# Altium integrated library Caps.IntLib: 151 symbols (part 2 of 3)
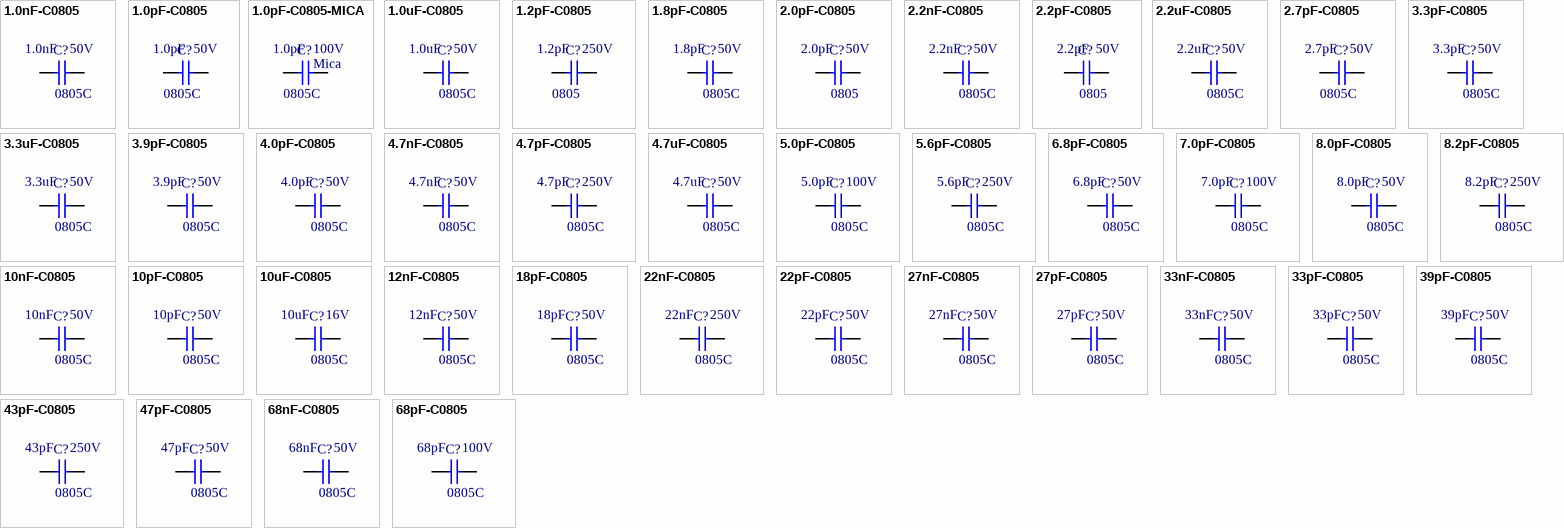
[diagram p8: symbols 1.0nF-C0805 to 68pF-C0805]

## 1.0pF-C0805-MICA
designator C?, comment value 1.0pF  PackageReference: 0805C  Voltage: 100V  Special: Mica  (hidden comment: MC08CA010D-F, 1.0pF, 0805, 100V)
1.0pF, SMD Chip Capacitor, Mica, 0805 size, Non Polarized, 100V; Published: 8-Jun-2000; LatestRevisionDate: 29-May-2009; LatestRevisionNote: IPC-7351 Footprint Added.; Publisher: Altium Limited; PackageDescription: Chip Capacitor; Supplier 1: Arrow; Supplier 2: Digi-Key; Supplier 3: Newark; Supplier 4: Mouser; Supplier Part Number 1: MC08CA010D-F; Supplier Part Number 2: 338-1339-ND; Supplier Part Number 3: 66K2678; Supplier Part Number 4: 5982-08-100V1.0-F; Part Number: MC08CA010D-F
footprint 0805-C (Chip Capacitor, Body 2.0x1.3mm, IPC High Density)
simulation model CAP (Capacitor)
signal-integrity model Cap Semi (Capacitor Signal Integrity Analisys)
3D model 0805Cap (PCB3D Model)
pins: 1, 2

## 1.0uF-C0805
designator C?, comment value 1.0uF  PackageReference: 0805C  Voltage: 50V  (hidden comment: 1.0uF, 0805, 50V)
1.0uF, SMD Chip Capacitor, 0805 size, Non Polarized, 50V; Published: 8-Jun-2000; LatestRevisionDate: 29-May-2009; LatestRevisionNote: IPC-7351 Footprint Added.; Publisher: Altium Limited; PackageDescription: Chip Capacitor; Supplier 1: Newark; Supplier 2: Digi-Key; Supplier 3: Mouser; Supplier Part Number 1: 07W3955; Supplier Part Number 2: 399-7409-6-ND; Supplier Part Number 3: 80-C0805C105K5R
footprint 0805-C (Chip Capacitor, Body 2.0x1.3mm, IPC High Density)
simulation model CAP (Semiconductor Capacitor)
signal-integrity model Cap Semi (Capacitor Signal Integrity Analisys)
3D model 0805Cap (PCB3D Model)
pins: 1, 2

## 1.2pF-C0805
designator C?, comment value 1.2pF  PackageReference: 0805  Voltage: 250V  (hidden comment: 1.2pF, 0805, 250V)
1.2pF, SMD Chip Capacitor, 0805 size, Non Polarized, 250V; Published: 8-Jun-2000; LatestRevisionDate: 29-May-2009; LatestRevisionNote: IPC-7351 Footprint Added.; Publisher: Altium Limited; PackageDescription: Chip Capacitor; Supplier 1: Mouser; Supplier 2: Digi-Key; Supplier Part Number 1: 581-08051A1R2CAT2A; Supplier Part Number 2: 478-5149-1-ND
footprint 0805-C (Chip Capacitor, Body 2.0x1.3mm, IPC High Density)
simulation model CAP (Capacitor)
signal-integrity model Cap Semi (Capacitor Signal Integrity Analisys)
3D model 0805Cap (PCB3D Model)
pins: 1, 2

## 1.8pF-C0805
designator C?, comment value 1.8pF  PackageReference: 0805C  Voltage: 50V  (hidden comment: 1.8pF, 0805, 50V)
1.8pF, SMD Chip Capacitor, 0805 size, Non Polarized, 50V; Published: 8-Jun-2000; LatestRevisionDate: 29-May-2009; LatestRevisionNote: IPC-7351 Footprint Added.; Publisher: Altium Limited; PackageDescription: Chip Capacitor; Supplier 1: Digi-Key; Supplier 2: Mouser; Supplier 3: Newark; Supplier Part Number 1: 478-1295-1-ND; Supplier Part Number 2: 581-08055A1R8C; Supplier Part Number 3: 94W2922
footprint 0805-C (Chip Capacitor, Body 2.0x1.3mm, IPC High Density)
simulation model CAP (Capacitor)
signal-integrity model Cap Semi (Capacitor Signal Integrity Analisys)
3D model 0805Cap (PCB3D Model)
pins: 1, 2

## 2.0pF-C0805
designator C?, comment value 2.0pF  PackageReference: 0805  Voltage: 50V  (hidden comment: 2.0pF, 0805, 50V)
2.0pF, SMD Chip Capacitor, 0805 size, Non Polarized, 50V; Published: 8-Jun-2000; LatestRevisionDate: 29-May-2009; LatestRevisionNote: IPC-7351 Footprint Added.; Publisher: Altium Limited; PackageDescription: Chip Capacitor; Supplier 1: Newark; Supplier 2: Mouser; Supplier 3: Digi-Key; Supplier Part Number 1: 64K2912; Supplier Part Number 2: 80-C0805C209C5G; Supplier Part Number 3: 399-1106-1-ND
footprint 0805-C (Chip Capacitor, Body 2.0x1.3mm, IPC High Density)
simulation model CAP (Capacitor)
signal-integrity model Cap Semi (Capacitor Signal Integrity Analisys)
3D model 0805Cap (PCB3D Model)
pins: 1, 2

## 2.2nF-C0805
designator C?, comment value 2.2nF  PackageReference: 0805C  Voltage: 50V  (hidden comment: 2.2nF, 0805, 50V)
2.2nF, SMD Chip Capacitor, 0805 size, Non Polarized, 50V; Published: 8-Jun-2000; LatestRevisionDate: 29-May-2009; LatestRevisionNote: IPC-7351 Footprint Added.; Publisher: Altium Limited; PackageDescription: Chip Capacitor; Supplier 1: Digi-Key; Supplier 2: Mouser; Supplier 3: Newark; Supplier Part Number 1: 399-1151-6-ND; Supplier Part Number 2: 80-C0805C222K5R; Supplier Part Number 3: 19C6019
footprint 0805-C (Chip Capacitor, Body 2.0x1.3mm, IPC High Density)
simulation model CAP (Capacitor)
signal-integrity model Cap Semi (Capacitor Signal Integrity Analisys)
3D model 0805Cap (PCB3D Model)
pins: 1, 2

## 2.2pF-C0805
designator C?, comment value 2.2pF  PackageReference: 0805  Voltage: 50V  (hidden comment: 2.2pF, 0805, 50V)
2.2pF, SMD Chip Capacitor, 0805 size, Non Polarized, 50V; Published: 8-Jun-2000; LatestRevisionDate: 29-May-2009; LatestRevisionNote: IPC-7351 Footprint Added.; Publisher: Altium Limited; PackageDescription: Chip Capacitor; Supplier 1: Arrow; Supplier 2: Mouser; Supplier 3: Newark; Supplier 4: Digi-Key; Supplier Part Number 1: 08055A2R2CAT2A; Supplier Part Number 2: 581-08055A2R2C; Supplier Part Number 3: 34M9403; Supplier Part Number 4: 478-1296-1-ND
footprint 0805-C (Chip Capacitor, Body 2.0x1.3mm, IPC High Density)
simulation model CAP (Capacitor)
signal-integrity model Cap Semi (Capacitor Signal Integrity Analisys)
3D model 0805Cap (PCB3D Model)
pins: 1, 2

## 2.2uF-C0805
designator C?, comment value 2.2uF  PackageReference: 0805C  Voltage: 50V  (hidden comment: 2.2uF, 0805, 50V)
2.2uF, SMD Chip Capacitor, 0805 size, Non Polarized, 50V; Published: 8-Jun-2000; LatestRevisionDate: 29-May-2009; LatestRevisionNote: IPC-7351 Footprint Added.; Publisher: Altium Limited; PackageDescription: Chip Capacitor; Supplier 1: Digi-Key; Supplier 2: Newark; Supplier 3: Mouser; Supplier Part Number 1: 587-1292-1-ND; Supplier Part Number 2: 30K5543; Supplier Part Number 3: 963-TMK212BJ225KG-T
footprint 0805-C (Chip Capacitor, Body 2.0x1.3mm, IPC High Density)
simulation model CAP (Capacitor)
signal-integrity model Cap Semi (Capacitor Signal Integrity Analisys)
3D model 0805Cap (PCB3D Model)
pins: 1, 2

## 2.7pF-C0805
designator C?, comment value 2.7pF  PackageReference: 0805C  Voltage: 50V  (hidden comment: 2.7pF, 0805, 50V)
2.7pF, SMD Chip Capacitor, 0805 size, Non Polarized, 50V; Published: 8-Jun-2000; LatestRevisionDate: 29-May-2009; LatestRevisionNote: IPC-7351 Footprint Added.; Publisher: Altium Limited; PackageDescription: Chip Capacitor; Supplier 1: Newark; Supplier 2: Digi-Key; Supplier 3: Mouser; Supplier Part Number 1: 94W2928; Supplier Part Number 2: 478-1297-1-ND; Supplier Part Number 3: 581-08055A2R7C
footprint 0805-C (Chip Capacitor, Body 2.0x1.3mm, IPC High Density)
simulation model CAP (Capacitor)
signal-integrity model Cap Semi (Capacitor Signal Integrity Analisys)
3D model 0805Cap (PCB3D Model)
pins: 1, 2

## 3.3pF-C0805
designator C?, comment value 3.3pF  PackageReference: 0805C  Voltage: 50V  (hidden comment: 3.3pF, 0805, 50V)
3.3pF, SMD Chip Capacitor, 0805 size, Non Polarized, 50V; Published: 8-Jun-2000; LatestRevisionDate: 29-May-2009; LatestRevisionNote: IPC-7351 Footprint Added.; Publisher: Altium Limited; PackageDescription: Chip Capacitor; Supplier 1: Mouser; Supplier 2: Newark; Supplier 3: Digi-Key; Supplier Part Number 1: 581-08055A3R3C; Supplier Part Number 2: 95W9318; Supplier Part Number 3: 478-1298-1-ND
footprint 0805-C (Chip Capacitor, Body 2.0x1.3mm, IPC High Density)
simulation model CAP (Capacitor)
signal-integrity model Cap Semi (Capacitor Signal Integrity Analisys)
3D model 0805Cap (PCB3D Model)
pins: 1, 2

## 3.3uF-C0805
designator C?, comment value 3.3uF  PackageReference: 0805C  Voltage: 50V  (hidden comment: 3.3uF, 0805, 50V)
3.3uF, SMD Chip Capacitor, 0805 size, Non Polarized, 50V; Published: 8-Jun-2000; LatestRevisionDate: 29-May-2009; LatestRevisionNote: IPC-7351 Footprint Added.; Publisher: Altium Limited; PackageDescription: Chip Capacitor; Supplier 1: Mouser; Supplier 2: Newark; Supplier 3: Digi-Key; Supplier Part Number 1: 810-CGA4J3X5R1H335K; Supplier Part Number 2: 52W9758; Supplier Part Number 3: 445-7881-1-ND
footprint 0805-C (Chip Capacitor, Body 2.0x1.3mm, IPC High Density)
simulation model CAP (Capacitor)
signal-integrity model Cap Semi (Capacitor Signal Integrity Analisys)
3D model 0805Cap (PCB3D Model)
pins: 1, 2

## 3.9pF-C0805
designator C?, comment value 3.9pF  PackageReference: 0805C  Voltage: 50V  (hidden comment: 3.9pF, 0805, 50V)
3.9pF, SMD Chip Capacitor, 0805 size, Non Polarized, xxV; Published: 8-Jun-2000; LatestRevisionDate: 29-May-2009; LatestRevisionNote: IPC-7351 Footprint Added.; Publisher: Altium Limited; PackageDescription: Chip Capacitor; Supplier 1: Digi-Key; Supplier 2: Mouser; Supplier 3: Newark; Supplier Part Number 1: 478-1298-1-ND; Supplier Part Number 2: 581-08055A3R3C; Supplier Part Number 3: 95W9318
footprint 0805-C (Chip Capacitor, Body 2.0x1.3mm, IPC High Density)
simulation model CAP (Capacitor)
signal-integrity model Cap Semi (Capacitor Signal Integrity Analisys)
3D model 0805Cap (PCB3D Model)
pins: 1, 2

## 4.0pF-C0805
designator C?, comment value 4.0pF  PackageReference: 0805C  Voltage: 50V  (hidden comment: 4.0pF, 0805, 50V)
4.0pF, SMD Chip Capacitor, 0805 size, Non Polarized, 50V; Published: 8-Jun-2000; LatestRevisionDate: 29-May-2009; LatestRevisionNote: IPC-7351 Footprint Added.; Publisher: Altium Limited; PackageDescription: Chip Capacitor; Supplier 1: Digi-Key; Supplier 2: Newark; Supplier 3: Mouser; Supplier Part Number 1: 311-1093-1-ND; Supplier Part Number 2: 65R8447; Supplier Part Number 3: 603-CC805CRNPO9BN4R0
footprint 0805-C (Chip Capacitor, Body 2.0x1.3mm, IPC High Density)
simulation model CAP (Capacitor)
signal-integrity model Cap Semi (Capacitor Signal Integrity Analisys)
3D model 0805Cap (PCB3D Model)
pins: 1, 2

## 4.7nF-C0805
designator C?, comment value 4.7nF  PackageReference: 0805C  Voltage: 50V  (hidden comment: 4.7nF, 0805, 50V)
4.7nF, SMD Chip Capacitor, 0805 size, Non Polarized, 50V; Published: 8-Jun-2000; LatestRevisionDate: 29-May-2009; LatestRevisionNote: IPC-7351 Footprint Added.; Publisher: Altium Limited; PackageDescription: Chip Capacitor; Supplier 1: Newark; Supplier 2: Digi-Key; Supplier 3: Mouser; Supplier Part Number 1: 64K2938; Supplier Part Number 2: 399-1155-1-ND; Supplier Part Number 3: 80-C0805C472K5R
footprint 0805-C (Chip Capacitor, Body 2.0x1.3mm, IPC High Density)
simulation model CAP (Capacitor)
signal-integrity model Cap Semi (Capacitor Signal Integrity Analisys)
3D model 0805Cap (PCB3D Model)
pins: 1, 2

## 4.7pF-C0805
designator C?, comment value 4.7pF  PackageReference: 0805C  Voltage: 250V  (hidden comment: 4.7pF, 0805, 250V)
4.7pF, SMD Chip Capacitor, 0805 size, Non Polarized, 250V; Published: 8-Jun-2000; LatestRevisionDate: 29-May-2009; LatestRevisionNote: IPC-7351 Footprint Added.; Publisher: Altium Limited; PackageDescription: Chip Capacitor; Supplier 1: Digi-Key; Supplier 2: Digi-Key; Supplier 3: Mouser; Supplier Part Number 1: 712-1371-6-ND; Supplier Part Number 2: 712-1371-1-ND; Supplier Part Number 3: 609-251R15S4R7BV4E
footprint 0805-C (Chip Capacitor, Body 2.0x1.3mm, IPC High Density)
simulation model CAP (Capacitor)
signal-integrity model Cap Semi (Capacitor Signal Integrity Analisys)
3D model 0805Cap (PCB3D Model)
pins: 1, 2

## 4.7uF-C0805
designator C?, comment value 4.7uF  PackageReference: 0805C  Voltage: 50V  (hidden comment: 4.7uF, 0805, 50V)
4.7uF, SMD Chip Capacitor, 0805 size, Non Polarized, 50V; Published: 8-Jun-2000; LatestRevisionDate: 29-May-2009; LatestRevisionNote: IPC-7351 Footprint Added.; Publisher: Altium Limited; PackageDescription: Chip Capacitor; Supplier 1: Mouser; Supplier 2: Newark; Supplier 3: Digi-Key; Supplier Part Number 1: 81-GRM21BR61E475KA12; Supplier Part Number 2: 24R6340; Supplier Part Number 3: 490-3335-1-ND
footprint 0805-C (Chip Capacitor, Body 2.0x1.3mm, IPC High Density)
simulation model CAP (Capacitor)
signal-integrity model Cap Semi (Capacitor Signal Integrity Analisys)
3D model 0805Cap (PCB3D Model)
pins: 1, 2

## 5.0pF-C0805
designator C?, comment value 5.0pF  PackageReference: 0805C  Voltage: 100V  (hidden comment: 5.0pF, 0805, 100V)
5.0pF, SMD Chip Capacitor, 0805 size, Non Polarized, 100V; Published: 8-Jun-2000; LatestRevisionDate: 29-May-2009; LatestRevisionNote: IPC-7351 Footprint Added.; Publisher: Altium Limited; PackageDescription: Chip Capacitor; Supplier 1: Arrow; Supplier 2: Digi-Key; Supplier 3: Mouser; Supplier Part Number 1: GQM2195C2A5R0CB01D; Supplier Part Number 2: 490-3591-1-ND; Supplier Part Number 3: 81-GQM2195C2A5R0CB01
footprint 0805-C (Chip Capacitor, Body 2.0x1.3mm, IPC High Density)
simulation model CAP (Capacitor)
signal-integrity model Cap Semi (Capacitor Signal Integrity Analisys)
3D model 0805Cap (PCB3D Model)
pins: 1, 2

## 5.6pF-C0805
designator C?, comment value 5.6pF  PackageReference: 0805C  Voltage: 250V  (hidden comment: 5.6pF, 0805, 250V)
5.6pF, SMD Chip Capacitor, 0805 size, Non Polarized, 250V; Published: 8-Jun-2000; LatestRevisionDate: 29-May-2009; LatestRevisionNote: IPC-7351 Footprint Added.; Publisher: Altium Limited; PackageDescription: Chip Capacitor; Supplier 1: Newark; Supplier 2: Mouser; Supplier 3: Digi-Key; Supplier Part Number 1: 41T1811; Supplier Part Number 2: 609-251R15S5R6CV4E; Supplier Part Number 3: 712-1372-1-ND
footprint 0805-C (Chip Capacitor, Body 2.0x1.3mm, IPC High Density)
simulation model CAP (Capacitor)
signal-integrity model Cap Semi (Capacitor Signal Integrity Analisys)
3D model 0805Cap (PCB3D Model)
pins: 1, 2

## 6.8pF-C0805
designator C?, comment value 6.8pF  PackageReference: 0805C  Voltage: 50V  (hidden comment: 6.8pF, 0805, 50V)
6.8pF, SMD Chip Capacitor, 0805 size, Non Polarized, 50V; Published: 8-Jun-2000; LatestRevisionDate: 29-May-2009; LatestRevisionNote: IPC-7351 Footprint Added.; Publisher: Altium Limited; PackageDescription: Chip Capacitor; Supplier 1: Mouser; Supplier 2: Digi-Key; Supplier 3: Newark; Supplier Part Number 1: 80-C0805C689D5G; Supplier Part Number 2: 399-9270-1-ND; Supplier Part Number 3: 07X0972
footprint 0805-C (Chip Capacitor, Body 2.0x1.3mm, IPC High Density)
simulation model CAP (Capacitor)
signal-integrity model Cap Semi (Capacitor Signal Integrity Analisys)
3D model 0805Cap (PCB3D Model)
pins: 1, 2

## 7.0pF-C0805
designator C?, comment value 7.0pF  PackageReference: 0805C  Voltage: 100V  (hidden comment: 7.0pF, 0805, 100V)
7.0pF, SMD Chip Capacitor, 0805 size, Non Polarized, 100V; Published: 8-Jun-2000; LatestRevisionDate: 29-May-2009; LatestRevisionNote: IPC-7351 Footprint Added.; Publisher: Altium Limited; PackageDescription: Chip Capacitor; Supplier 1: Digi-Key; Supplier 2: Arrow; Supplier 3: Mouser; Supplier Part Number 1: 490-3597-1-ND; Supplier Part Number 2: GQM2195C2A7R0CB01D; Supplier Part Number 3: 81-GQM2195C2A7R0CB01
footprint 0805-C (Chip Capacitor, Body 2.0x1.3mm, IPC High Density)
simulation model CAP (Capacitor)
signal-integrity model Cap Semi (Capacitor Signal Integrity Analisys)
3D model 0805Cap (PCB3D Model)
pins: 1, 2

## 8.0pF-C0805
designator C?, comment value 8.0pF  PackageReference: 0805C  Voltage: 50V  (hidden comment: 8.0pF, 0805, 50V)
8.0pF, SMD Chip Capacitor, 0805 size, Non Polarized, 50V; Published: 8-Jun-2000; LatestRevisionDate: 29-May-2009; LatestRevisionNote: IPC-7351 Footprint Added.; Publisher: Altium Limited; PackageDescription: Chip Capacitor; Supplier 1: Digi-Key; Supplier 2: Mouser; Supplier 3: Newark; Supplier Part Number 1: 311-1097-1-ND; Supplier Part Number 2: 603-CC805DRNPO9BN8R0; Supplier Part Number 3: 65R8472
footprint 0805-C (Chip Capacitor, Body 2.0x1.3mm, IPC High Density)
simulation model CAP (Capacitor)
signal-integrity model Cap Semi (Capacitor Signal Integrity Analisys)
3D model 0805Cap (PCB3D Model)
pins: 1, 2

## 8.2pF-C0805
designator C?, comment value 8.2pF  PackageReference: 0805C  Voltage: 250V  (hidden comment: 8.2pF, 0805, 250V)
8.2pF, SMD Chip Capacitor, 0805 size, Non Polarized, 250V; Published: 8-Jun-2000; LatestRevisionDate: 29-May-2009; LatestRevisionNote: IPC-7351 Footprint Added.; Publisher: Altium Limited; PackageDescription: Chip Capacitor; Supplier 1: Digi-Key; Supplier 2: Mouser; Supplier 3: Newark; Supplier Part Number 1: 712-1375-1-ND; Supplier Part Number 2: 609-251R15S8R2CV4E; Supplier Part Number 3: 41T1816
footprint 0805-C (Chip Capacitor, Body 2.0x1.3mm, IPC High Density)
simulation model CAP (Capacitor)
signal-integrity model Cap Semi (Capacitor Signal Integrity Analisys)
3D model 0805Cap (PCB3D Model)
pins: 1, 2

## 10nF-C0805
designator C?, comment value 10nF  PackageReference: 0805C  Voltage: 50V  (hidden comment: 10nF, 0805, 50V)
10nF, SMD Chip Capacitor, 0805 size, Non Polarized, 50V; Published: 8-Jun-2000; LatestRevisionDate: 29-May-2009; LatestRevisionNote: IPC-7351 Footprint Added.; Publisher: Altium Limited; PackageDescription: Chip Capacitor; Supplier 1: Mouser; Supplier 2: Digi-Key; Supplier 3: Newark; Supplier Part Number 1: 80-C0805C103K5R; Supplier Part Number 2: 399-1158-6-ND; Supplier Part Number 3: 01J3314
footprint 0805-C (Chip Capacitor, Body 2.0x1.3mm, IPC High Density)
simulation model CAP (Capacitor)
signal-integrity model Cap Semi (Capacitor Signal Integrity Analisys)
3D model 0805Cap (PCB3D Model)
pins: 1, 2

## 10pF-C0805
designator C?, comment value 10pF  PackageReference: 0805C  Voltage: 50V  (hidden comment: 10pF, 0805, 50V)
10pF, SMD Chip Capacitor, 0805 size, Non Polarized, 50V; Published: 8-Jun-2000; LatestRevisionDate: 29-May-2009; LatestRevisionNote: IPC-7351 Footprint Added.; Publisher: Altium Limited; PackageDescription: Chip Capacitor; Supplier 1: Newark; Supplier 2: Digi-Key; Supplier Part Number 1: 64K2874; Supplier Part Number 2: 399-7975-1-ND
footprint 0805-C (Chip Capacitor, Body 2.0x1.3mm, IPC High Density)
simulation model CAP (Capacitor)
signal-integrity model Cap Semi (Capacitor Signal Integrity Analisys)
3D model 0805Cap (PCB3D Model)
pins: 1, 2

## 10uF-C0805
designator C?, comment value 10uF  PackageReference: 0805C  Voltage: 16V  (hidden comment: 10uF, 0805, 16V)
10uF, SMD Chip Capacitor, 0805 size, Non Polarized, 16V; Published: 8-Jun-2000; LatestRevisionDate: 29-May-2009; LatestRevisionNote: IPC-7351 Footprint Added.; Publisher: Altium Limited; PackageDescription: Chip Capacitor; Supplier 1: Arrow; Supplier 2: Digi-Key; Supplier 3: Mouser; Supplier Part Number 1: C0805C106M4PACTU; Supplier Part Number 2: 399-8013-1-ND; Supplier Part Number 3: 80-C0805C106M4P
footprint 0805-C (Chip Capacitor, Body 2.0x1.3mm, IPC High Density)
simulation model CAP (Capacitor)
signal-integrity model Cap Semi (Capacitor Signal Integrity Analisys)
3D model 0805Cap (PCB3D Model)
pins: 1, 2

## 12nF-C0805
designator C?, comment value 12nF  PackageReference: 0805C  Voltage: 50V  (hidden comment: 12nF, 0805, 50V)
12nF, SMD Chip Capacitor, 0805 size, Non Polarized, 50V; Published: 8-Jun-2000; LatestRevisionDate: 29-May-2009; LatestRevisionNote: IPC-7351 Footprint Added.; Publisher: Altium Limited; PackageDescription: Chip Capacitor; Supplier 1: Digi-Key; Supplier 2: Newark; Supplier 3: Mouser; Supplier Part Number 1: 478-1384-1-ND; Supplier Part Number 2: 94W2938; Supplier Part Number 3: 581-08055C123KAT2A
footprint 0805-C (Chip Capacitor, Body 2.0x1.3mm, IPC High Density)
simulation model CAP (Capacitor)
signal-integrity model Cap Semi (Capacitor Signal Integrity Analisys)
3D model 0805Cap (PCB3D Model)
pins: 1, 2

## 18pF-C0805
designator C?, comment value 18pF  PackageReference: 0805C  Voltage: 50V  (hidden comment: 18pF, 0805, 50V)
18pF, SMD Chip Capacitor, 0805 size, Non Polarized, 50V; Published: 8-Jun-2000; LatestRevisionDate: 29-May-2009; LatestRevisionNote: IPC-7351 Footprint Added.; Publisher: Altium Limited; PackageDescription: Chip Capacitor; Supplier 1: Mouser; Supplier 2: Digi-Key; Supplier 3: Newark; Supplier Part Number 1: 80-C0805C180J5G; Supplier Part Number 2: 399-1112-1-ND; Supplier Part Number 3: 64K2909
footprint 0805-C (Chip Capacitor, Body 2.0x1.3mm, IPC High Density)
simulation model CAP (Capacitor)
signal-integrity model Cap Semi (Capacitor Signal Integrity Analisys)
3D model 0805Cap (PCB3D Model)
pins: 1, 2

## 22nF-C0805
designator C?, comment value 22nF  PackageReference: 0805C  Voltage: 250V  (hidden comment: 22nF, 0805, 250V)
22nF, SMD Chip Capacitor, 0805 size, Non Polarized, 250V; Published: 8-Jun-2000; LatestRevisionDate: 29-May-2009; LatestRevisionNote: IPC-7351 Footprint Added.; Publisher: Altium Limited; PackageDescription: Chip Capacitor; Supplier 1: Digi-Key; Supplier 2: Newark; Supplier 3: Mouser; Supplier Part Number 1: 445-2281-6-ND; Supplier Part Number 2: 04X3291; Supplier Part Number 3: 810-C2012X7R2E223K
footprint 0805-C (Chip Capacitor, Body 2.0x1.3mm, IPC High Density)
simulation model CAP (Capacitor)
signal-integrity model Cap Semi (Capacitor Signal Integrity Analisys)
3D model 0805Cap (PCB3D Model)
pins: 1, 2

## 22pF-C0805
designator C?, comment value 22pF  PackageReference: 0805C  Voltage: 50V  (hidden comment: 22pF, 0805, 50V)
22pF, SMD Chip Capacitor, 0805 size, Non Polarized, 50V; Published: 8-Jun-2000; LatestRevisionDate: 29-May-2009; LatestRevisionNote: IPC-7351 Footprint Added.; Publisher: Altium Limited; PackageDescription: Chip Capacitor; Supplier 1: Newark; Supplier 2: Mouser; Supplier 3: Digi-Key; Supplier Part Number 1: 70K9277; Supplier Part Number 2: 80-C0805C220J5G; Supplier Part Number 3: 399-1113-1-ND
footprint 0805-C (Chip Capacitor, Body 2.0x1.3mm, IPC High Density)
simulation model CAP (Capacitor)
signal-integrity model Cap Semi (Capacitor Signal Integrity Analisys)
3D model 0805Cap (PCB3D Model)
pins: 1, 2

## 27nF-C0805
designator C?, comment value 27nF  PackageReference: 0805C  Voltage: 50V  (hidden comment: 27nF, 0805, 50V)
27nF, SMD Chip Capacitor, 0805 size, Non Polarized, 50V; Published: 8-Jun-2000; LatestRevisionDate: 29-May-2009; LatestRevisionNote: IPC-7351 Footprint Added.; Publisher: Altium Limited; PackageDescription: Chip Capacitor; Supplier 1: Digi-Key; Supplier 2: Newark; Supplier 3: Mouser; Supplier Part Number 1: 478-1388-1-ND; Supplier Part Number 2: 94W2944; Supplier Part Number 3: 581-08055C273K
footprint 0805-C (Chip Capacitor, Body 2.0x1.3mm, IPC High Density)
simulation model CAP (Capacitor)
signal-integrity model Cap Semi (Capacitor Signal Integrity Analisys)
3D model 0805Cap (PCB3D Model)
pins: 1, 2

## 27pF-C0805
designator C?, comment value 27pF  PackageReference: 0805C  Voltage: 50V  (hidden comment: 27pF, 0805, 50V)
27pF, SMD Chip Capacitor, 0805 size, Non Polarized, 50V; Published: 8-Jun-2000; LatestRevisionDate: 29-May-2009; LatestRevisionNote: IPC-7351 Footprint Added.; Publisher: Altium Limited; PackageDescription: Chip Capacitor; Supplier 1: Newark; Supplier 2: Digi-Key; Supplier 3: Mouser; Supplier Part Number 1: 64K2920; Supplier Part Number 2: 399-1114-1-ND; Supplier Part Number 3: 80-C0805C270J5G
footprint 0805-C (Chip Capacitor, Body 2.0x1.3mm, IPC High Density)
simulation model CAP (Capacitor)
signal-integrity model Cap Semi (Capacitor Signal Integrity Analisys)
3D model 0805Cap (PCB3D Model)
pins: 1, 2

## 33nF-C0805
designator C?, comment value 33nF  PackageReference: 0805C  Voltage: 50V  (hidden comment: 33nF, 0805, 50V)
33nF, SMD Chip Capacitor, 0805 size, Non Polarized, 50V; Published: 8-Jun-2000; LatestRevisionDate: 29-May-2009; LatestRevisionNote: IPC-7351 Footprint Added.; Publisher: Altium Limited; PackageDescription: Chip Capacitor; Supplier 1: Digi-Key; Supplier 2: Newark; Supplier 3: Mouser; Supplier Part Number 1: 445-6950-1-ND; Supplier Part Number 2: 52W9735; Supplier Part Number 3: 810-CGA4J2C0G1H333J
footprint 0805-C (Chip Capacitor, Body 2.0x1.3mm, IPC High Density)
simulation model CAP (Capacitor)
signal-integrity model Cap Semi (Capacitor Signal Integrity Analisys)
3D model 0805Cap (PCB3D Model)
pins: 1, 2

## 33pF-C0805
designator C?, comment value 33pF  PackageReference: 0805C  Voltage: 50V  (hidden comment: 33pF, 0805, 50V)
33pF, SMD Chip Capacitor, 0805 size, Non Polarized, 50V; Published: 8-Jun-2000; LatestRevisionDate: 29-May-2009; LatestRevisionNote: IPC-7351 Footprint Added.; Publisher: Altium Limited; PackageDescription: Chip Capacitor; Supplier 1: Newark; Supplier 2: Mouser; Supplier 3: Digi-Key; Supplier Part Number 1: 64K2926; Supplier Part Number 2: 80-C0805C330J5G; Supplier Part Number 3: 399-1115-6-ND
footprint 0805-C (Chip Capacitor, Body 2.0x1.3mm, IPC High Density)
simulation model CAP (Capacitor)
signal-integrity model Cap Semi (Capacitor Signal Integrity Analisys)
3D model 0805Cap (PCB3D Model)
pins: 1, 2

## 39pF-C0805
designator C?, comment value 39pF  PackageReference: 0805C  Voltage: 50V  (hidden comment: 39pF, 0805, 50V)
39pF, SMD Chip Capacitor, 0805 size, Non Polarized, 50V; Published: 8-Jun-2000; LatestRevisionDate: 29-May-2009; LatestRevisionNote: IPC-7351 Footprint Added.; Publisher: Altium Limited; PackageDescription: Chip Capacitor; Supplier 1: Digi-Key; Supplier 2: Newark; Supplier 3: Mouser; Supplier Part Number 1: 399-1115-1-ND; Supplier Part Number 2: 64K2926; Supplier Part Number 3: 80-C0805C330J5G
footprint 0805-C (Chip Capacitor, Body 2.0x1.3mm, IPC High Density)
simulation model CAP (Capacitor)
signal-integrity model Cap Semi (Capacitor Signal Integrity Analisys)
3D model 0805Cap (PCB3D Model)
pins: 1, 2

## 43pF-C0805
designator C?, comment value 43pF  PackageReference: 0805C  Voltage: 250V  (hidden comment: 43pF, 0805, 250V)
43pF, SMD Chip Capacitor, 0805 size, Non Polarized, 250V; Published: 8-Jun-2000; LatestRevisionDate: 29-May-2009; LatestRevisionNote: IPC-7351 Footprint Added.; Publisher: Altium Limited; PackageDescription: Chip Capacitor; Supplier 1: Newark; Supplier 2: Mouser; Supplier 3: Digi-Key; Supplier Part Number 1: 41T1809; Supplier Part Number 2: 609-251R15S430JV4E; Supplier Part Number 3: 712-1389-6-ND
footprint 0805-C (Chip Capacitor, Body 2.0x1.3mm, IPC High Density)
simulation model CAP (Capacitor)
signal-integrity model Cap Semi (Capacitor Signal Integrity Analisys)
3D model 0805Cap (PCB3D Model)
pins: 1, 2

## 47pF-C0805
designator C?, comment value 47pF  PackageReference: 0805C  Voltage: 50V  (hidden comment: 47pF, 0805, 50V)
47pF, SMD Chip Capacitor, 0805 size, Non Polarized, 50V; Published: 8-Jun-2000; LatestRevisionDate: 29-May-2009; LatestRevisionNote: IPC-7351 Footprint Added.; Publisher: Altium Limited; PackageDescription: Chip Capacitor; Supplier 1: Mouser; Supplier 2: Newark; Supplier 3: Digi-Key; Supplier Part Number 1: 80-C0805C470J5G; Supplier Part Number 2: 64K2936; Supplier Part Number 3: 399-1117-1-ND
footprint 0805-C (Chip Capacitor, Body 2.0x1.3mm, IPC High Density)
simulation model CAP (Capacitor)
signal-integrity model Cap Semi (Capacitor Signal Integrity Analisys)
3D model 0805Cap (PCB3D Model)
pins: 1, 2

## 68nF-C0805
designator C?, comment value 68nF  PackageReference: 0805C  Voltage: 50V  (hidden comment: 68nF, 0805, 50V)
68nF, SMD Chip Capacitor, 0805 size, Non Polarized, 50V; Published: 8-Jun-2000; LatestRevisionDate: 29-May-2009; LatestRevisionNote: IPC-7351 Footprint Added.; Publisher: Altium Limited; PackageDescription: Chip Capacitor; Supplier 1: Newark; Supplier 2: Digi-Key; Supplier 3: Mouser; Supplier Part Number 1: 77R3566; Supplier Part Number 2: 399-5623-1-ND; Supplier Part Number 3: 80-C0805C683K5R
footprint 0805-C (Chip Capacitor, Body 2.0x1.3mm, IPC High Density)
simulation model CAP (Capacitor)
signal-integrity model Cap Semi (Capacitor Signal Integrity Analisys)
3D model 0805Cap (PCB3D Model)
pins: 1, 2

## 68pF-C0805
designator C?, comment value 68pF  PackageReference: 0805C  Voltage: 100V  (hidden comment: 68pF, 0805, 100V)
68pF, SMD Chip Capacitor, 0805 size, Non Polarized, 100V; Published: 8-Jun-2000; LatestRevisionDate: 29-May-2009; LatestRevisionNote: IPC-7351 Footprint Added.; Publisher: Altium Limited; PackageDescription: Chip Capacitor; Supplier 1: Digi-Key; Supplier 2: Newark; Supplier 3: Mouser; Supplier Part Number 1: 399-8109-6-ND; Supplier Part Number 2: 74R1810; Supplier Part Number 3: 80-C0805C680J1G
footprint 0805-C (Chip Capacitor, Body 2.0x1.3mm, IPC High Density)
simulation model CAP (Capacitor)
signal-integrity model Cap Semi (Capacitor Signal Integrity Analisys)
3D model 0805Cap (PCB3D Model)
pins: 1, 2

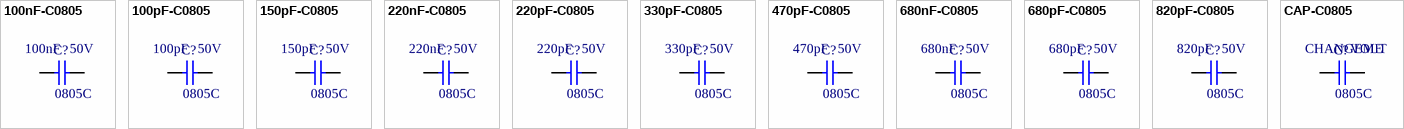
[diagram p4: symbols 100nF-C0805 to CAP-C0805]

## 100nF-C0805
designator C?, comment value 100nF  PackageReference: 0805C  Voltage: 50V  (hidden comment: 100nF, 0805, 50V)
100nF, SMD Chip Capacitor, 0805 size, Non Polarized, 50V; Published: 8-Jun-2000; LatestRevisionDate: 29-May-2009; LatestRevisionNote: IPC-7351 Footprint Added.; Publisher: Altium Limited; PackageDescription: Chip Capacitor; Supplier 1: Newark; Supplier 2: Digi-Key; Supplier 3: Mouser; Supplier Part Number 1: 19C6015; Supplier Part Number 2: 399-1170-1-ND; Supplier Part Number 3: 80-C0805C104K5R
footprint 0805-C (Chip Capacitor, Body 2.0x1.3mm, IPC High Density)
simulation model CAP (Capacitor)
signal-integrity model Cap Semi (Capacitor Signal Integrity Analisys)
3D model 0805Cap (PCB3D Model)
pins: 1, 2

## 100pF-C0805
designator C?, comment value 100pF  PackageReference: 0805C  Voltage: 50V  (hidden comment: 100pF, 0805, 50V)
100pF, SMD Chip Capacitor, 0805 size, Non Polarized, 50V; Published: 8-Jun-2000; LatestRevisionDate: 29-May-2009; LatestRevisionNote: IPC-7351 Footprint Added.; Publisher: Altium Limited; PackageDescription: Chip Capacitor; Supplier 1: Digi-Key; Supplier 2: Mouser; Supplier 3: Newark; Supplier Part Number 1: 399-1122-1-ND; Supplier Part Number 2: 80-C0805C101J5G; Supplier Part Number 3: 70K9275
footprint 0805-C (Chip Capacitor, Body 2.0x1.3mm, IPC High Density)
simulation model CAP (Capacitor)
signal-integrity model Cap Semi (Capacitor Signal Integrity Analisys)
3D model 0805Cap (PCB3D Model)
pins: 1, 2

## 150pF-C0805
designator C?, comment value 150pF  PackageReference: 0805C  Voltage: 50V  (hidden comment: 150pF, 0805, 50V)
150pF, SMD Chip Capacitor, 0805 size, Non Polarized, xxV; Published: 8-Jun-2000; LatestRevisionDate: 29-May-2009; LatestRevisionNote: IPC-7351 Footprint Added.; Publisher: Altium Limited; PackageDescription: Chip Capacitor; Supplier 1: Newark; Supplier 2: Digi-Key; Supplier 3: Mouser; Supplier Part Number 1: 70K9276; Supplier Part Number 2: 399-1125-6-ND; Supplier Part Number 3: 80-C0805C151J5G
footprint 0805-C (Chip Capacitor, Body 2.0x1.3mm, IPC High Density)
simulation model CAP (Capacitor)
signal-integrity model Cap Semi (Capacitor Signal Integrity Analisys)
3D model 0805Cap (PCB3D Model)
pins: 1, 2

## 220nF-C0805
designator C?, comment value 220nF  PackageReference: 0805C  Voltage: 50V  (hidden comment: 220nF, 0805, 50V)
220nF, SMD Chip Capacitor, 0805 size, Non Polarized, 50V; Published: 8-Jun-2000; LatestRevisionDate: 29-May-2009; LatestRevisionNote: IPC-7351 Footprint Added.; Publisher: Altium Limited; PackageDescription: Chip Capacitor; Supplier 1: Newark; Supplier 2: Digi-Key; Supplier 3: Mouser; Supplier Part Number 1: 70K9140; Supplier Part Number 2: 399-3491-6-ND; Supplier Part Number 3: 80-C0805C224K5R
footprint 0805-C (Chip Capacitor, Body 2.0x1.3mm, IPC High Density)
simulation model CAP (Capacitor)
signal-integrity model Cap Semi (Capacitor Signal Integrity Analisys)
3D model 0805Cap (PCB3D Model)
pins: 1, 2

## 220pF-C0805
designator C?, comment value 220pF  PackageReference: 0805C  Voltage: 50V  (hidden comment: 220pF, 0805, 50V)
220pF, SMD Chip Capacitor, 0805 size, Non Polarized, 50V; Published: 8-Jun-2000; LatestRevisionDate: 29-May-2009; LatestRevisionNote: IPC-7351 Footprint Added.; Publisher: Altium Limited; PackageDescription: Chip Capacitor; Supplier 1: Mouser; Supplier 2: Newark; Supplier 3: Digi-Key; Supplier Part Number 1: 80-C0805C221J5G; Supplier Part Number 2: 64K2915; Supplier Part Number 3: 399-1127-1-ND
footprint 0805-C (Chip Capacitor, Body 2.0x1.3mm, IPC High Density)
simulation model CAP (Capacitor)
signal-integrity model Cap Semi (Capacitor Signal Integrity Analisys)
3D model 0805Cap (PCB3D Model)
pins: 1, 2

## 330pF-C0805
designator C?, comment value 330pF  PackageReference: 0805C  Voltage: 50V  (hidden comment: 330pF, 0805, 50V)
330pF, SMD Chip Capacitor, 0805 size, Non Polarized, 50V; Published: 8-Jun-2000; LatestRevisionDate: 29-May-2009; LatestRevisionNote: IPC-7351 Footprint Added.; Publisher: Altium Limited; PackageDescription: Chip Capacitor; Supplier 1: Newark; Supplier 2: Mouser; Supplier 3: Digi-Key; Supplier Part Number 1: 64K2928; Supplier Part Number 2: 80-C0805C331J5G; Supplier Part Number 3: 399-1130-1-ND
footprint 0805-C (Chip Capacitor, Body 2.0x1.3mm, IPC High Density)
simulation model CAP (Capacitor)
signal-integrity model Cap Semi (Capacitor Signal Integrity Analisys)
3D model 0805Cap (PCB3D Model)
pins: 1, 2

## 470pF-C0805
designator C?, comment value 470pF  PackageReference: 0805C  Voltage: 50V  (hidden comment: 470pF, 0805, 50V)
470pF, SMD Chip Capacitor, 0805 size, Non Polarized, 50V; Published: 8-Jun-2000; LatestRevisionDate: 29-May-2009; LatestRevisionNote: IPC-7351 Footprint Added.; Publisher: Altium Limited; PackageDescription: Chip Capacitor; Supplier 1: Newark; Supplier 2: Digi-Key; Supplier 3: Mouser; Supplier Part Number 1: 52X5947; Supplier Part Number 2: 399-1142-6-ND; Supplier Part Number 3: 80-C0805C471K5R
footprint 0805-C (Chip Capacitor, Body 2.0x1.3mm, IPC High Density)
simulation model CAP (Capacitor)
signal-integrity model Cap Semi (Capacitor Signal Integrity Analisys)
3D model 0805Cap (PCB3D Model)
pins: 1, 2

## 680nF-C0805
designator C?, comment value 680nF  PackageReference: 0805C  Voltage: 50V  (hidden comment: 680nF, 0805, 50V)
680nF, SMD Chip Capacitor, 0805 size, Non Polarized, 50V; Published: 8-Jun-2000; LatestRevisionDate: 29-May-2009; LatestRevisionNote: IPC-7351 Footprint Added.; Publisher: Altium Limited; PackageDescription: Chip Capacitor; Supplier 1: Mouser; Supplier 2: Newark; Supplier 3: Digi-Key; Supplier Part Number 1: 80-C0805C684K5R; Supplier Part Number 2: 53M7279; Supplier Part Number 3: 399-8114-6-ND
footprint 0805-C (Chip Capacitor, Body 2.0x1.3mm, IPC High Density)
simulation model CAP (Capacitor)
signal-integrity model Cap Semi (Capacitor Signal Integrity Analisys)
3D model 0805Cap (PCB3D Model)
pins: 1, 2

## 680pF-C0805
designator C?, comment value 680pF  PackageReference: 0805C  Voltage: 50V  (hidden comment: 680pF, 0805, 50V)
680pF, SMD Chip Capacitor, 0805 size, Non Polarized, 50V; Published: 8-Jun-2000; LatestRevisionDate: 29-May-2009; LatestRevisionNote: IPC-7351 Footprint Added.; Publisher: Altium Limited; PackageDescription: Chip Capacitor; Supplier 1: Newark; Supplier 2: Digi-Key; Supplier 3: Mouser; Supplier Part Number 1: 64K2946; Supplier Part Number 2: 399-1135-1-ND; Supplier Part Number 3: 80-C0805C681J5G
footprint 0805-C (Chip Capacitor, Body 2.0x1.3mm, IPC High Density)
simulation model CAP (Capacitor)
signal-integrity model Cap Semi (Capacitor Signal Integrity Analisys)
3D model 0805Cap (PCB3D Model)
pins: 1, 2

## 820pF-C0805
designator C?, comment value 820pF  PackageReference: 0805C  Voltage: 50V  (hidden comment: 820pF, 0805, 50V)
820pF, SMD Chip Capacitor, 0805 size, Non Polarized, 50V; Published: 8-Jun-2000; LatestRevisionDate: 29-May-2009; LatestRevisionNote: IPC-7351 Footprint Added.; Publisher: Altium Limited; PackageDescription: Chip Capacitor; Supplier 1: Mouser; Supplier 2: Digi-Key; Supplier 3: Newark; Supplier Part Number 1: 80-C0805C821J5G; Supplier Part Number 2: 399-8119-1-ND; Supplier Part Number 3: 07X0975
footprint 0805-C (Chip Capacitor, Body 2.0x1.3mm, IPC High Density)
simulation model CAP (Capacitor)
signal-integrity model Cap Semi (Capacitor Signal Integrity Analisys)
3D model 0805Cap (PCB3D Model)
pins: 1, 2

## CAP-C0805
designator C?, comment value CHANGEME  PackageReference: 0805C  Voltage: VOLT  (hidden comment: Generic Capacitor, 0805, ??V)
Generic, SMD Chip Capacitor, 0805 size, Non Polarized, ???V; Published: 8-Jun-2000; LatestRevisionDate: 29-May-2009; LatestRevisionNote: IPC-7351 Footprint Added.; Publisher: Altium Limited; PackageDescription: Chip Capacitor
footprint 0805-C (Chip Capacitor, Body 2.0x1.3mm, IPC High Density)
simulation model CAP (Capacitor)
signal-integrity model Cap Semi (Capacitor Signal Integrity Analisys)
3D model 0805Cap (PCB3D Model)
pins: 1, 2


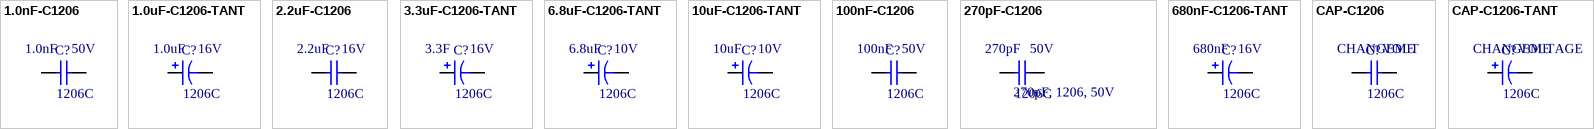
[diagram p5: symbols 1.0nF-C1206 to CAP-C1206-TANT]

## 1.0nF-C1206
designator C?, comment value 1.0nF  PackageReference: 1206C  Voltage: 50V  (hidden comment: 1.0nF, 1206, 50V)
1.0nF, SMD Chip Capacitor, 1206 size, Non Polarized, 50V; Published: 8-Jun-2000; LatestRevisionDate: 29-May-2009; LatestRevisionNote: IPC-7351 Footprint Added.; Publisher: Altium Limited; PackageDescription: Chip Capacitor; Supplier 1: Newark; Supplier 2: Digi-Key; Supplier 3: TME; Supplier Part Number 1: 50M6476; Supplier Part Number 2: 311-1170-1-ND; Supplier Part Number 3: CC1206KRX7R9102
footprint 1206-C (Chip Capacitor, Body 3.2x1.6mm, IPC High Density)
simulation model CAP (Capacitor)
signal-integrity model Cap Semi (Capacitor Signal Integrity Analisys)
3D model 1206Cap (PCB3D Model)
pins: 1, 2

## 1.0uF-C1206-TANT
designator C?, comment value 1.0uF  PackageReference: 1206C  Voltage: 16V  (hidden comment: 1.0uF, 1206, 16V)
1.0uF, SMD Chip Capacitor, 1206 size, Tantalum, Polarized, 16V; Published: 8-Jun-2000; LatestRevisionDate: 29-May-2009; LatestRevisionNote: IPC-7351 Footprint Added.; Publisher: Altium Limited; PackageDescription: Chip Capacitor; Supplier 1: Mouser; Supplier 2: Newark; Supplier 3: Digi-Key; Supplier 4: TME; Supplier Part Number 1: 80-T491A105K016; Supplier Part Number 2: 57K1624; Supplier Part Number 3: 399-3678-1-ND; Supplier Part Number 4: T491A105K016AT
footprint 1206-C-TANT (Capacitor, SM Tantalum; Body 3.2 x 1.6 mm (LxW typ), Kemet Size Code: S, A.  AVX Size Code: S, A)
simulation model CAP (Capacitor)
signal-integrity model Cap Semi (Capacitor Signal Integrity Analisys)
3D model 1206Cap-Tant-A (PCB3D Model)
pins: 1, 2

## 2.2uF-C1206
designator C?, comment value 2.2uF  PackageReference: 1206C  Voltage: 16V  (hidden comment: 2.2uF, 1206, 16V)
2.2uF, SMD Chip Capacitor, 1206 size, Non Polarized, 16V; Published: 8-Jun-2000; LatestRevisionDate: 29-May-2009; LatestRevisionNote: IPC-7351 Footprint Added.; Publisher: Altium Limited; PackageDescription: Chip Capacitor; Supplier 1: Newark; Supplier 2: Mouser; Supplier 3: Digi-Key; Supplier Part Number 1: 97K0657; Supplier Part Number 2: 81-GRM426X225K16L; Supplier Part Number 3: 490-1799-1-ND
footprint 1206-C (Chip Capacitor, Body 3.2x1.6mm, IPC High Density)
simulation model CAP (Capacitor)
signal-integrity model Cap Semi (Capacitor Signal Integrity Analisys)
3D model 1206Cap (PCB3D Model)
pins: 1, 2

## 3.3uF-C1206-TANT
designator C?, comment value 3.3F  PackageReference: 1206C  Voltage: 16V  (hidden comment: 3.3uF, 1206, 16V)
3.3uF, SMD Chip Capacitor, 1206 size, Tantalum, Polarized, 16V; Published: 8-Jun-2000; LatestRevisionDate: 29-May-2009; LatestRevisionNote: IPC-7351 Footprint Added.; Publisher: Altium Limited; PackageDescription: Chip Capacitor; Supplier 1: Mouser; Supplier 2: Newark; Supplier 3: Digi-Key; Supplier Part Number 1: 581-TAJA335K016; Supplier Part Number 2: 60R5849; Supplier Part Number 3: 478-2354-1-ND
footprint 1206-C-TANT (Capacitor, SM Tantalum; Body 3.2 x 1.6 mm (LxW typ), Kemet Size Code: S, A.  AVX Size Code: S, A)
simulation model CAP (Capacitor)
signal-integrity model Cap Semi (Capacitor Signal Integrity Analisys)
3D model 1206Cap-Tant-A (PCB3D Model)
pins: 1, 2

## 6.8uF-C1206-TANT
designator C?, comment value 6.8uF  PackageReference: 1206C  Voltage: 10V  (hidden comment: 6.8uF, 1206, 10V)
6.8uF, SMD Chip Capacitor, 1206 size, Tantalum, Polarized, 10V; Published: 8-Jun-2000; LatestRevisionDate: 29-May-2009; LatestRevisionNote: IPC-7351 Footprint Added.; Publisher: Altium Limited; PackageDescription: Chip Capacitor; Supplier 1: Digi-Key; Supplier 2: Newark; Supplier 3: Mouser; Supplier Part Number 1: 399-10134-1-ND; Supplier Part Number 2: 57K1724; Supplier Part Number 3: 80-T491A685M010
footprint 1206-C-TANT (Capacitor, SM Tantalum; Body 3.2 x 1.6 mm (LxW typ), Kemet Size Code: S, A.  AVX Size Code: S, A)
simulation model CAP (Capacitor)
signal-integrity model Cap Semi (Capacitor Signal Integrity Analisys)
3D model 1206Cap-Tant-A (PCB3D Model)
pins: 1, 2

## 10uF-C1206-TANT
designator C?, comment value 10uF  PackageReference: 1206C  Voltage: 10V  (hidden comment: 10uF, 1206, 10V)
10uF, SMD Chip Capacitor, 1206 size, Tantalum, Polarized, 10V; Published: 8-Jun-2000; LatestRevisionDate: 29-May-2009; LatestRevisionNote: IPC-7351 Footprint Added.; Publisher: Altium Limited; PackageDescription: Chip Capacitor; Supplier 1: Digi-Key; Supplier 2: Newark; Supplier 3: Mouser; Supplier Part Number 1: 399-3684-6-ND; Supplier Part Number 2: 57K1635; Supplier Part Number 3: 80-T491A106K010
footprint 1206-C-TANT (Capacitor, SM Tantalum; Body 3.2 x 1.6 mm (LxW typ), Kemet Size Code: S, A.  AVX Size Code: S, A)
simulation model CAP (Capacitor)
signal-integrity model Cap Semi (Capacitor Signal Integrity Analisys)
3D model 1206Cap-Tant-A (PCB3D Model)
pins: 1, 2

## 100nF-C1206
designator C?, comment value 100nF  PackageReference: 1206C  Voltage: 50V  (hidden comment: 100nF, 1206, 50V)
100nF, SMD Chip Capacitor, 1206 size, Non Polarized, 50V; Published: 8-Jun-2000; LatestRevisionDate: 29-May-2009; LatestRevisionNote: IPC-7351 Footprint Added.; Publisher: Altium Limited; PackageDescription: Chip Capacitor; Supplier 1: Mouser; Supplier 2: Digi-Key; Supplier 3: Newark; Supplier Part Number 1: 80-C1206C104K5R; Supplier Part Number 2: 399-1249-1-ND; Supplier Part Number 3: 70K9167
footprint 1206-C (Chip Capacitor, Body 3.2x1.6mm, IPC High Density)
simulation model CAP (Capacitor)
signal-integrity model Cap Semi (Capacitor Signal Integrity Analisys)
3D model 1206Cap (PCB3D Model)
pins: 1, 2

## 270pF-C1206
designator C?, comment 270pF, 1206, 50V  value 270pF  PackageReference: 1206C  Voltage: 50V
270pF, SMD Chip Capacitor, 1206 size, Non Polarized, 50V; Published: 8-Jun-2000; LatestRevisionDate: 29-May-2009; LatestRevisionNote: IPC-7351 Footprint Added.; Publisher: Altium Limited; PackageDescription: Chip Capacitor; Supplier 1: Mouser; Supplier 2: Arrow; Supplier 3: Digi-Key; Supplier Part Number 1: 581-12065A271JAT2A; Supplier Part Number 2: 12065A271JAT2A; Supplier Part Number 3: 478-1485-1-ND
footprint 1206-C (Chip Capacitor, Body 3.2x1.6mm, IPC High Density)
simulation model CAP (Capacitor)
signal-integrity model Cap Semi (Capacitor Signal Integrity Analisys)
3D model 1206Cap (PCB3D Model)
pins: 1, 2

## 680nF-C1206-TANT
designator C?, comment value 680nF  PackageReference: 1206C  Voltage: 16V  (hidden comment: 680nF, 1206, 16V)
680nF, SMD Chip Capacitor, 1206 size, Tantalum, Polarized, 16V; Published: 8-Jun-2000; LatestRevisionDate: 29-May-2009; LatestRevisionNote: IPC-7351 Footprint Added.; Publisher: Altium Limited; PackageDescription: Chip Capacitor; Supplier 1: Digi-Key; Supplier 2: Mouser; Supplier Part Number 1: 399-10129-1-ND; Supplier Part Number 2: 80-T491A684K020
footprint 1206-C-TANT (Capacitor, SM Tantalum; Body 3.2 x 1.6 mm (LxW typ), Kemet Size Code: S, A.  AVX Size Code: S, A)
simulation model CAP (Capacitor)
signal-integrity model Cap Semi (Capacitor Signal Integrity Analisys)
3D model 1206Cap-Tant-A (PCB3D Model)
pins: 1, 2

## CAP-C1206
designator C?, comment value CHANGEME  PackageReference: 1206C  Voltage: VOLT  (hidden comment: ??F, 1206, ??V)
Generic, SMD Chip Capacitor, 1206 size, Non Polarized, ??V; Published: 8-Jun-2000; LatestRevisionDate: 29-May-2009; LatestRevisionNote: IPC-7351 Footprint Added.; Publisher: Altium Limited; PackageDescription: Chip Capacitor
footprint 1206-C (Chip Capacitor, Body 3.2x1.6mm, IPC High Density)
simulation model CAP (Capacitor)
signal-integrity model Cap Semi (Capacitor Signal Integrity Analisys)
3D model 1206Cap (PCB3D Model)
pins: 1, 2

## CAP-C1206-TANT
designator C?, comment value CHANGEME  PackageReference: 1206C  (hidden comment: ????, 1206, ??V)
Generic, SMD Chip Capacitor, 1206 size, Tantalum, Polarized; Published: 8-Jun-2000; LatestRevisionDate: 29-May-2009; LatestRevisionNote: IPC-7351 Footprint Added.; Publisher: Altium Limited; PackageDescription: Chip Capacitor; Voltage: VOLTAGE
footprint 1206-C-TANT (Capacitor, SM Tantalum; Body 3.2 x 1.6 mm (LxW typ), Kemet Size Code: S, A.  AVX Size Code: S, A)
simulation model CAP (Capacitor)
signal-integrity model Cap Semi (Capacitor Signal Integrity Analisys)
3D model 1206Cap-Tant-A (PCB3D Model)
pins: 1, 2


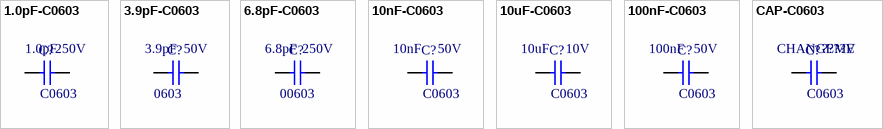
[diagram p6: symbols 1.0pF-C0603 to CAP-C0603]

## 1.0pF-C0603
designator C?, comment value 1.0pF  PackageReference: C0603  Voltage: 250V  (hidden comment: 1.0pF, 0603, 250V)
1pF, SMD Chip Capacitor, 0603 size, Non Polarized, 250VV; Published: 8-Jun-2000; LatestRevisionDate: 29-May-2009; LatestRevisionNote: IPC-7351 Footprint Added.; Publisher: Altium Limited; PackageDescription: Chip Capacitor; Supplier 1: Mouser; Supplier 2: Digi-Key; Supplier Part Number 1: 80-CBR06C109BAG; Supplier Part Number 2: 399-8799-1-ND
footprint 0603-C (Chip Capacitor, Body 0.6x0.3mm, IPC High Density)
simulation model CAP (Capacitor)
signal-integrity model Cap Semi (Capacitor Signal Integrity Analisys)
3D model 0603Cap (PCB3D Model)
pins: 1, 2

## 3.9pF-C0603
designator C?, comment value 3.9pF  PackageReference: 0603  Voltage: 50V  (hidden comment: 3.9pF, 0603, 50V)
3.9pF, SMD Chip Capacitor, 0603 size, Non Polarized, 50V; Published: 8-Jun-2000; LatestRevisionDate: 29-May-2009; LatestRevisionNote: IPC-7351 Footprint Added.; Publisher: Altium Limited; PackageDescription: Chip Capacitor; Supplier 1: Digi-Key; Supplier 2: Mouser; Supplier Part Number 1: 399-8807-1-ND; Supplier Part Number 2: 80-CBR06C399BAG
footprint 0603-C (Chip Capacitor, Body 0.6x0.3mm, IPC High Density)
simulation model CAP (Capacitor)
signal-integrity model Cap Semi (Capacitor Signal Integrity Analisys)
3D model 0603Cap (PCB3D Model)
pins: 1, 2

## 6.8pF-C0603
designator C?, comment value 6.8pF  Voltage: 250V  PackageReference: 00603  (hidden comment: 3.8pF, 0603, 250V)
6.8pF, SMD Chip Capacitor, 0603 size, Non Polarized, 250V; Published: 8-Jun-2000; LatestRevisionDate: 29-May-2009; LatestRevisionNote: IPC-7351 Footprint Added.; Publisher: Altium Limited; PackageDescription: Chip Capacitor; Supplier 1: Newark; Supplier 2: Mouser; Supplier 3: Digi-Key; Supplier Part Number 1: 24W7894; Supplier Part Number 2: 77-VJ0603D6R8CXPAJ; Supplier Part Number 3: 720-1323-1-ND
footprint 0603-C (Chip Capacitor, Body 0.6x0.3mm, IPC High Density)
simulation model CAP (Capacitor)
signal-integrity model Cap Semi (Capacitor Signal Integrity Analisys)
3D model 0603Cap (PCB3D Model)
pins: 1, 2

## 10nF-C0603
designator C?, comment value 10nF  Voltage: 50V  PackageReference: C0603  (hidden comment: 10nF, 0603, 500V)
10nF, SMD Chip Capacitor, 0603 size, Non Polarized,  050V; Published: 8-Jun-2000; LatestRevisionDate: 29-May-2009; LatestRevisionNote: IPC-7351 Footprint Added.; Publisher: Altium Limited; PackageDescription: Chip Capacitor; Supplier 1: Newark; Supplier 2: Digi-Key; Supplier 3: Mouser; Supplier Part Number 1: 30C5334; Supplier Part Number 2: 399-1091-6-ND; Supplier Part Number 3: 80-C0603C103K5R
footprint 0603-C (Chip Capacitor, Body 0.6x0.3mm, IPC High Density)
simulation model CAP (Capacitor)
signal-integrity model Cap Semi (Capacitor Signal Integrity Analisys)
3D model 0603Cap (PCB3D Model)
pins: 1, 2

## 10uF-C0603
designator C?, comment value 10uF  PackageReference: C0603  Voltage: 10V  (hidden comment: 10uF, 0603, 10CV)
10uF, SMD Chip Capacitor, 0603 size, Non Polarized, 10V; Published: 8-Jun-2000; LatestRevisionDate: 29-May-2009; LatestRevisionNote: IPC-7351 Footprint Added.; Publisher: Altium Limited; PackageDescription: Chip Capacitor; Supplier 1: Digi-Key; Supplier 2: Newark; Supplier 3: Mouser; Supplier Part Number 1: 445-6853-1-ND; Supplier Part Number 2: 48T2910; Supplier Part Number 3: 810-C1608X5R1A106M
footprint 0603-C (Chip Capacitor, Body 0.6x0.3mm, IPC High Density)
simulation model CAP (Capacitor)
signal-integrity model Cap Semi (Capacitor Signal Integrity Analisys)
3D model 0603Cap (PCB3D Model)
pins: 1, 2

## 100nF-C0603
designator C?, comment value 100nF  PackageReference: C0603  Voltage: 50V  (hidden comment: 100nF, 0603, 50V)
100nF, SMD Chip Capacitor, 0603 size, Non Polarized, 50V; Published: 8-Jun-2000; LatestRevisionDate: 29-May-2009; LatestRevisionNote: IPC-7351 Footprint Added.; Publisher: Altium Limited; PackageDescription: Chip Capacitor; Supplier 1: Digi-Key; Supplier 2: Mouser; Supplier 3: Newark; Supplier Part Number 1: 490-1532-1-ND; Supplier Part Number 2: 81-GRM39X104K16; Supplier Part Number 3: 14T3312
footprint 0603-C (Chip Capacitor, Body 0.6x0.3mm, IPC High Density)
simulation model CAP (Capacitor)
signal-integrity model Cap Semi (Capacitor Signal Integrity Analisys)
3D model 0603Cap (PCB3D Model)
pins: 1, 2

## CAP-C0603
designator C?, comment value CHANGEME  PackageReference: C0603  Voltage: ????V  (hidden comment: Generic, 0603, ???V)
Generic, SMD Chip Capacitor, 0603 size, Non Polarized, ????V; Published: 8-Jun-2000; LatestRevisionDate: 29-May-2009; LatestRevisionNote: IPC-7351 Footprint Added.; Publisher: Altium Limited; PackageDescription: Chip Capacitor
footprint 0603-C (Chip Capacitor, Body 0.6x0.3mm, IPC High Density)
simulation model CAP (Capacitor)
signal-integrity model Cap Semi (Capacitor Signal Integrity Analisys)
3D model 0603Cap (PCB3D Model)
pins: 1, 2


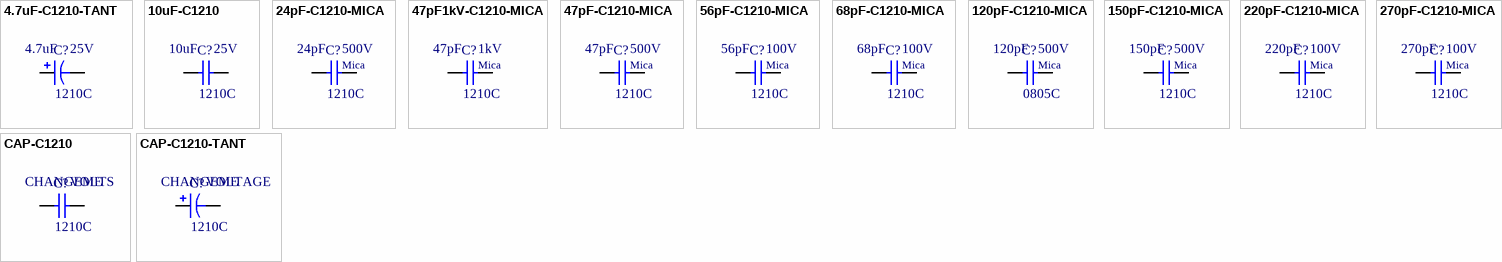
[diagram p7: symbols 4.7uF-C1210-TANT to CAP-C1210-TANT]